# Altium footprint library PcbLib1.PcbLib: 8 footprints
Each footprint in its own frame and in the unit in brackets; x right, y up, seen from the top. Pads: shape width x height; smd on the part's side, far side on the other; paste and mask are expansions set on the pad; w line width, h text height; cw(c..) or ccw(c..) is an arc to the next point about the centre after c.
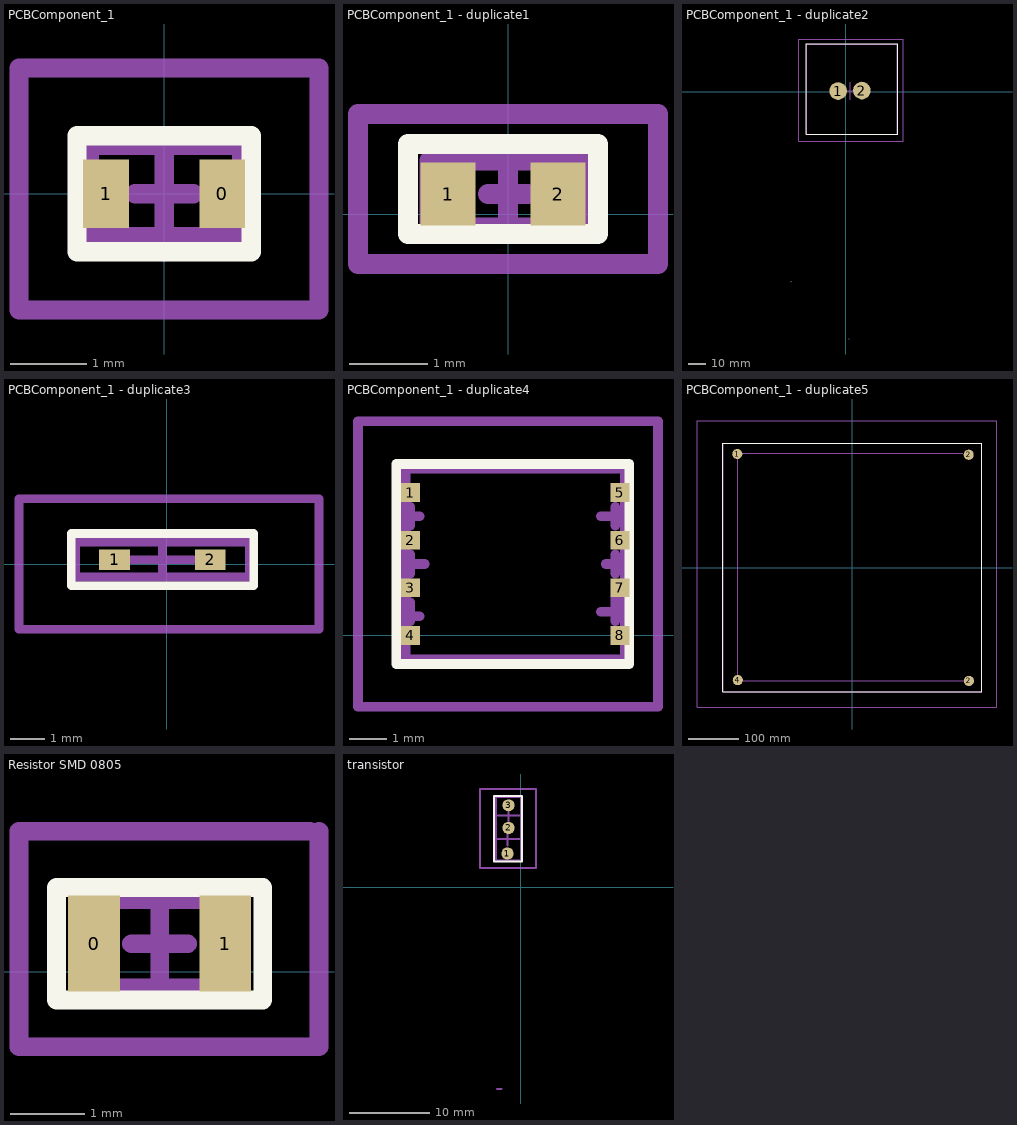
[diagram p0: the footprints below, top view; thin cyan lines are the x and y axes]

## PCBComponent_1 [mm]
pads (2):
  rect 0.6x0.9 smd: 0(0.762,0) 1(-0.762,0)
Top Overlay:
  lines w0.254: -1.143,-0.762 -1.143,0.762 1.143,0.762 1.143,-0.762 -1.143,-0.762
3D Model:
  lines w0.254: -0.984,-0.565 1.016,-0.565 1.016,0.635 -0.984,0.635 -0.984,-0.565
Boarder:
  lines w0.254: -0.381,0 0.381,0 ; 0,-0.762 0,0.762 ; -1.905,-1.524 2.032,-1.524 2.032,1.651 -1.905,1.651 -1.905,-1.524
3D body "Резистор 1206 _ 1206 SMD.stp": height 0.61, standoff 0, extent -0.984,-0.565 1.016,0.635

## PCBComponent_1 - duplicate1 [mm]
pads (2):
  rect 0.7x0.8 smd: 1(-0.762,0.254) 2(0.635,0.254)
Top Overlay:
  lines w0.254: -1.27,-0.254 -1.27,0.889 1.143,0.889 1.143,-0.254 -1.27,-0.254
3D Model:
  lines w0.254: -1,-0.171 -1,0.679 1,0.679 1,-0.171 -1,-0.171
Boarder:
  lines w0.254: -0.254,0.254 0.254,0.254 ; 0,-0.254 0,0.762 ; -1.905,-0.635 -1.905,1.27 1.905,1.27 1.905,-0.635 -1.905,-0.635
3D body "Диод стабилитрон.stp": height -0.05, standoff -0.7, extent -1,-0.171 1,0.679

## PCBComponent_1 - duplicate2 [mm]
pads (2):
  round 10 smd: 1(-4.445,0.381) 2(9.017,0.635)
Top Overlay:
  lines w0.254: -22.479,27.178 -22.479,-24.13 29.21,-24.13 29.21,27.178 -22.352,27.178
3D Model:
  lines w0.254: 1.778,-140.081 1.778,-139.954 ; -22.352,-24.13 -22.352,26.924 28.956,26.924 28.956,-24.13 -22.352,-24.13
Boarder:
  lines w0.254: -31.242,-107.696 -30.861,-107.315 ; 0.762,0.508 3.937,0.508 ; 2.286,-4.445 2.286,5.207 ; -26.67,-28.067 -26.67,29.845 32.385,29.845 32.385,-28.067 -26.67,-28.067
3D body "Конденсатор _ 220000UF.stp": height -0.3, standoff -102.3, extent -22.171,-24.09 28.829,26.884

## PCBComponent_1 - duplicate3 [mm]
pads (2):
  rect 0.9x0.6 smd: 1(-1.524,0.127) 2(1.27,0.127)
Top Overlay:
  lines w0.254: -2.794,-0.635 2.54,-0.635 2.54,0.889 -2.794,0.889 -2.794,-0.635
3D Model:
  lines w0.254: -2.667,-0.381 -2.667,0.635 2.413,0.635 2.413,-0.381 -2.667,-0.381
Boarder:
  lines w0.254: -1.016,0.127 0.762,0.127 ; -0.127,-0.365 -0.127,0.635 ; -4.318,-1.905 -4.318,1.905 4.445,1.905 4.445,-1.905 -4.318,-1.905
3D body "Header 2.stp": height -0.05, standoff -10.55, extent -2.627,-0.365 2.373,0.635

## PCBComponent_1 - duplicate4 [mm]
pads (8):
  rect 0.5x0.5 smd: 1(3.429,3.81) 2(3.429,2.54) 3(3.429,1.27) 4(3.429,0) 5(9.017,3.81) 6(9.017,2.54) 7(9.017,1.27) 8(9.017,0)
Top Overlay:
  lines w0.254: 3.048,-0.762 3.048,4.572 9.271,4.572 9.271,-0.762 3.048,-0.762
3D Model:
  lines w0.254: 3.302,-0.635 3.302,4.445 9.144,4.445 9.144,-0.635 3.302,-0.635
Boarder:
  lines w0.254: 3.175,0.508 3.683,0.508 ; 3.175,1.905 3.81,1.905 ; 3.175,3.175 3.683,3.175 ; 3.429,0.381 3.429,0.889 ; 3.429,1.651 3.429,2.159 ; 3.429,2.921 3.429,3.429 ; 8.509,0.635 9.144,0.635 ; 8.509,3.175 9.144,3.175 ; 8.636,1.905 9.144,1.905 ; 8.89,0.381 8.89,1.016 ; 8.89,1.651 8.89,2.159 ; 8.89,2.921 8.89,3.429 ; 9.144,1.905 9.144,1.905 ; 2.032,-1.905 2.032,5.715 10.033,5.715 10.033,-1.905 2.032,-1.905
3D body "Деталь.stp": height -0.02, standoff -2.17, extent 3.344,-0.695 9.144,4.505

## PCBComponent_1 - duplicate5 [mm]
pads (4):
  round 20 smd: 1(-227.203,224.028) 2(229.362,222.504) 2(229.743,-223.647) 4(-226.187,-222.123)
Top Overlay:
  lines w0.254: -255.651,-245.364 255.016,-245.364 255.016,245.11 -255.651,245.11 -255.651,-245.364
3D Model:
  lines w0.254: -255.397,-245.11 -255.397,244.856 254.762,244.856 254.762,-245.11 -255.397,-245.11
Boarder:
  lines w0.254: -306.705,289.176 285.242,289.433 285.242,-275.463 -306.705,-275.463 -306.705,289.179 ; -227.584,-212.471 -226.695,-212.471 ; -227.584,213.741 -225.806,213.741 -225.806,-216.408 ; -219.456,225.171 218.059,225.171 ; -216.408,-223.647 219.456,-223.647 ; 227.965,216.662 229.362,216.662
3D body "Сборка.stp": height 60, standoff 0, extent -255.27,-245.017 254.73,244.983

## Resistor SMD 0805 [mm]
pads (2):
  rect 0.7x1.3 smd: 0(-3.81,0.381) 1(-2.032,0.381)
Top Overlay:
  lines w0.254: -4.318,-0.381 -1.524,-0.381 -1.524,1.143 -4.318,1.143 -4.318,-0.381
3D Model:
  lines w0.254: -3.921,-0.219 -1.921,-0.219 -1.921,0.981 -3.921,0.981 -3.921,-0.219
Boarder:
  lines w0.254: -3.302,0.381 -2.54,0.381 ; -2.921,-0.254 -2.921,1.016 ; -0.889,1.905 -4.826,1.905 -4.826,-1.016 -0.762,-1.016 -0.762,1.905
3D body "Резистор 1206 _ 1206 SMD.stp": height 0.61, standoff 0, extent -3.921,-0.219 -1.921,0.981

## transistor [mm]
pads (3):
  round 1.5 smd: 1(-1.651,4.191) 2(-1.524,7.366) 3(-1.524,10.16)
Top Overlay:
  lines w0.254: -3.302,3.175 0.127,3.175 0.127,11.303 -3.302,11.303 -3.302,3.175
3D Model:
  lines w0.254: -2.921,-25.019 -2.413,-25.019 ; -3.048,3.302 -3.048,11.176 0,11.176 0,3.302 -3.048,3.302
Boarder:
  lines w0.254: -2.921,5.969 -0.127,5.969 ; -2.794,8.89 -0.127,8.89 -1.524,8.89 -1.651,8.89 ; -1.651,5.207 -1.651,6.604 ; -1.524,8.255 -1.524,9.271 ; -5.08,2.413 -5.08,12.192 1.905,12.192 1.905,2.413 -5.08,2.413
3D body "BD139, Транзистор.stp": height -0.04, standoff -27.09, extent -2.9,3.212 0,11.012